# EAGLE library part MICROSD (library sd_card)
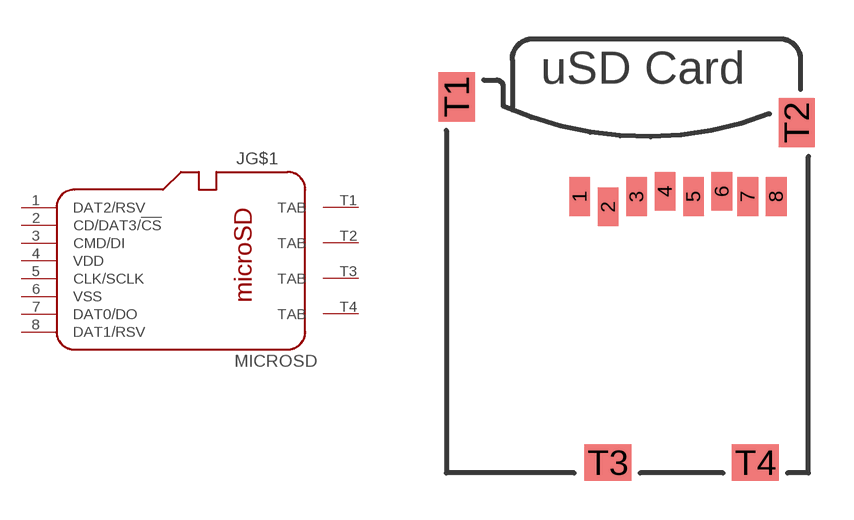
[diagram p0: symbol with the pads of MOLEX-MICROSD-500873; footprint MOLEX-MICROSD-500873]

Designator prefix J; gates G$1=MICROSD G$2=TAB G$3=TAB G$4=TAB G$5=TAB

## MICROSDMOL500873  [MOLEX-MICROSD-500873]
1  G$1:DAT2/RSV
2  G$1:CD/DAT3/!CS
3  G$1:CMD/DI
4  G$1:VDD  pwr
5  G$1:CLK/SCLK  in
6  G$1:VSS  pwr
7  G$1:DAT0/DO
8  G$1:DAT1/RSV
T1  G$2:TAB  pas
T2  G$3:TAB  pas
T3  G$4:TAB  pas
T4  G$5:TAB  pas

## Footprint MOLEX-MICROSD-500873 (pad centres in mm)
smd 0.8 x 1.5: 1 -2.49,3.08; 2 -1.39,2.68; 3 -0.29,3.08; 4 0.81,3.28; 5 1.91,3.08; 6 3.01,3.28; 7 4.01,3.08; 8 5.11,3.08
smd 1.4 x 1.9: T1 -7.25,6.93; T2 5.9,5.93
smd 1.8 x 1.4: T3 -1.4,-7.22; T4 4.3,-7.22